# Altium integrated library MCP73831T-5ACI_OT.IntLib: 1 symbol
Pins are listed as number, name and electrical type; pins without a type are passive.

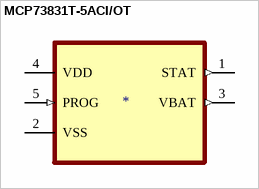
[diagram p0: symbol MCP73831T-5ACI/OT]

## MCP73831T-5ACI/OT
designator ?
Charger IC Lithium Ion/Polymer SOT-23-5; MP: MCP73831T-5ACI/OT; MF: Microchip; Package: SOT-23-5 Microchip; SnapEDA_Link: https://www.snapeda.com/parts/MCP73831T-5ACI/OT/Microchip/view-part/1037579/?ref=snap; Availability: Unavailable; Price: None; Value: *
footprint SOT95P280X145-5N
pins: 1 STAT (out), 2 VSS (power), 3 VBAT (out), 4 VDD (power), 5 PROG (in)